# Altium footprint library Discrete_Inductors_Wirewound_SMD.PcbLib: 1 footprints
Each footprint in its own frame and in the unit in brackets; x right, y up, seen from the top. Pads: shape width x height; smd on the part's side, far side on the other; paste and mask are expansions set on the pad; w line width, h text height; cw(c..) or ccw(c..) is an arc to the next point about the centre after c.
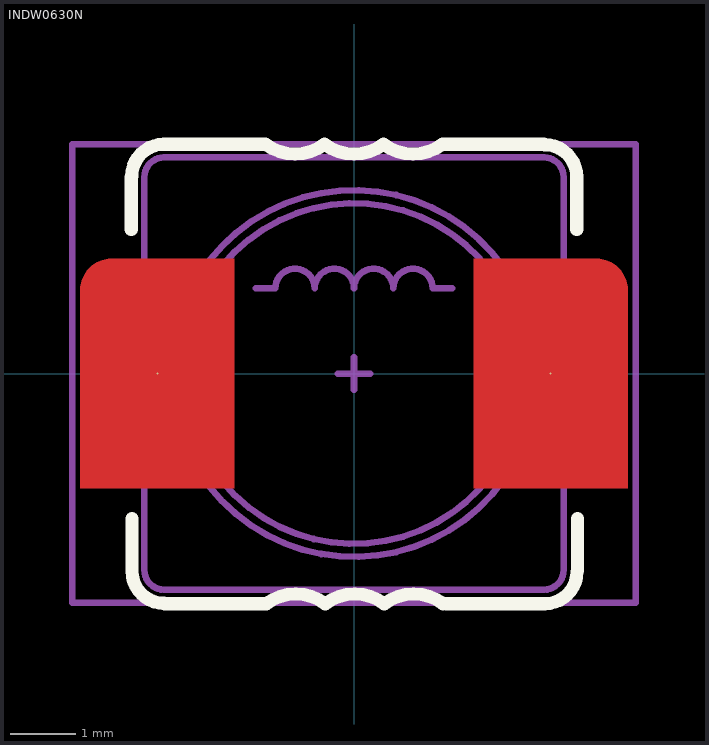
[diagram p0: the footprint, top view; thin cyan lines are the x and y axes]

## INDW0630N [mil]
height 118.11
pads (2):
  round 1 smd: 1(-118.11,0) 2(118.11,0)
Top Layer:
  region: -145.87,68.9 -71.85,68.9 -71.85,-68.9 -164.37,-68.9 -164.37,50.39 -164.37,52.22 -163.66,55.79 -162.26,59.16 -160.24,62.19 -157.66,64.77 -154.63,66.79 -151.26,68.19 -147.69,68.9
  region: 164.37,-68.9 71.85,-68.9 71.85,68.9 145.87,68.9 147.69,68.9 151.26,68.19 154.63,66.79 157.66,64.77 160.24,62.19 162.26,59.16 163.66,55.79 164.37,52.22 164.37,50.39
Top Overlay:
  lines w7.87: -133.86,86.61 -133.86,118.11 ; -133.57,118.54 cw(c-114.32,118.54) -114.32,137.8 ; -133.42,-118.81 ccw(c-114.16,-118.81) -114.16,-138.06 ; -133.42,-118.66 -133.42,-87.17 ; -114.17,137.8 -55.12,137.8 ; -113.73,-138.35 -54.68,-138.35 ; -53.15,137.8 ccw(c-35.43,161.42) -17.72,137.8 ccw(c0,161.42) 17.72,137.8 ccw(c35.43,161.42) 53.15,137.8 ; -52.71,-138.35 cw(c-34.99,-161.97) -17.27,-138.35 cw(c0.44,-161.97) 18.16,-138.35 cw(c35.87,-161.97) 53.59,-138.35 ; 55.12,137.8 114.17,137.8 ; 55.56,-138.35 114.61,-138.35 ; 114.6,137.51 cw(c114.6,118.25) 133.86,118.25 ; 114.76,-138.35 ccw(c114.76,-119.09) 134.02,-119.09 ; 133.86,86.61 133.86,118.11 ; 134.3,-118.66 134.3,-87.17
Top Package:
  circle w3.94: c0,0 r102.36
  circle w3.94: c0,0 r110.24
  lines w3.94: -125.98,-59.06 -137.8,-59.06 -137.8,59.06 -125.98,59.06 ; -59.06,51.18 -47.24,51.18 cw(c-35.43,51.18) -23.62,51.18 cw(c-11.81,51.18) 0,51.18 cw(c11.81,51.18) 23.62,51.18 cw(c35.43,51.18) 47.24,51.18 59.06,51.18 ; 125.98,-59.06 137.8,-59.06 137.8,59.06 125.98,59.06 ; -125.98,-118.11 ccw(c-114.17,-118.11) -114.17,-129.92 114.17,-129.92 ccw(c114.17,-118.11) 125.98,-118.11 125.98,118.11 ccw(c114.17,118.11) 114.17,129.92 -114.17,129.92 ccw(c-114.17,118.11) -125.98,118.11 -125.98,-118.11
Top Comment:
  text ".Comment" at -67.01,-14.79 h47.24
Top Designator:
  text ".Designator" at -101.53,-13.17 h59.06
Top Border:
  lines w3.94: -9.84,0 9.84,0 ; 0,-9.84 0,9.84 ; -169.29,-137.8 169.29,-137.8 169.29,137.8 -169.29,137.8 -169.29,-137.8
3D body "INDW0630.step": height 110.24, standoff 0, extent -137.8,-129.92 137.8,129.92